# EAGLE library part TEN_40-2422E (library TEN_40-2422E)
40 Watt DC/DC converter, industrial, 2:1 input, cost/quality efficient, 2"x1" Source: Datasheet <https://tracopower.com/ten40e-datasheet/>
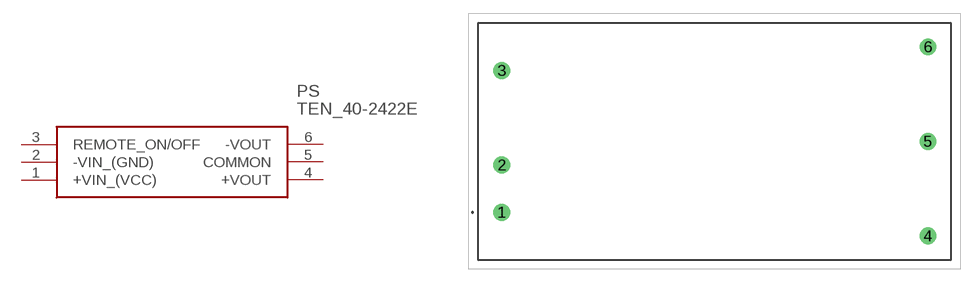
[diagram p0: symbol with the pads of TEN401225E; footprint TEN401225E]

Designator prefix PS

## TEN_40-2422E (Description: 40 Watt DC/DC converter, industrial, 2:1 input, cost/quality efficient, 2"x1"; Height: 10.7mm; Manufacturer_Name: Traco Power; Manufacturer_Part_Number: TEN 40-2422E; Mouser_Part_Number: 495-TEN40-2422E; Mouser_Price-Stock: https://www.mouser.co.uk/ProductDetail/TRACO-Power/TEN-40-2422E?qs=BJlw7L4Cy78Qb%2FaYE2djtQ%3D%3D)  [TEN401225E]
1  +VIN_(VCC)
2  -VIN_(GND)
3  REMOTE_ON/OFF
4  +VOUT
5  COMMON
6  -VOUT

## Footprint TEN401225E (pad centres in mm)
TEN 40-1225E
drill 1.2 pad 1.8: 1 0,0; 2 0,5.08; 3 0,15.24; 4 45.72,-2.54; 5 45.72,7.62; 6 45.72,17.78